# Altium footprint library AltiumDesigner.PcbLib: 3 footprints
Each footprint in its own frame and in the unit in brackets; x right, y up, seen from the top. Pads: shape width x height; smd on the part's side, far side on the other; paste and mask are expansions set on the pad; w line width, h text height; cw(c..) or ccw(c..) is an arc to the next point about the centre after c.
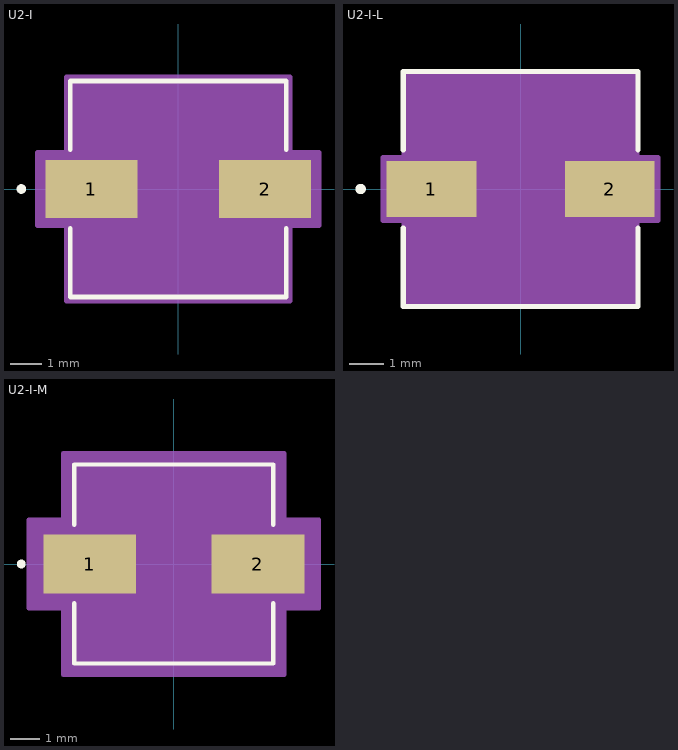
[diagram p0: the footprints below, top view; thin cyan lines are the x and y axes]

## U2-I [mil]
pads (2):
  rect 115x72 smd paste+0 mask+0: 1(-108.5,0) 2(108.5,0)
Top Overlay:
  circle w6: c-196,0 r3
  lines w6: -135,-49.1 -135,-135 135,-135 135,-49.1 ; -135,49.1 -135,135 135,135 135,49.1
Mechanical 13:
  circle w0: c-110,0 r3
  lines w1: -130,-65 -65,-130 ; -130,65 -65,130 ; -130,-130 130,-130 130,130 -130,130 -130,-130
Mechanical 15:
  region: -140,-46 -176,-46 -176,46 -140,46 -140,140 140,140 140,46 176,46 176,-46 140,-46 140,-140 -140,-140
  lines w6: -176,-46 -176,46 -140,46 -140,140 140,140 140,46 176,46 176,-46 140,-46 140,-140 -140,-140 -140,-46 -176,-46
3D body: height 10, standoff 0, extent 0,0 10,10

## U2-I-L [mil]
pads (2):
  rect 103x64 smd paste+0 mask+0: 1(-102.5,0) 2(102.5,0)
Top Overlay:
  circle w6: c-184,0 r3
  lines w6: -135,-45.1 -135,-135 135,-135 135,-45.1 ; -135,45.1 -135,135 135,135 135,45.1
Mechanical 13:
  circle w0: c-110,0 r3
  lines w1: -130,-65 -65,-130 ; -130,65 -65,130 ; -130,-130 130,-130 130,130 -130,130 -130,-130
Mechanical 15:
  region: -134,-36 -158,-36 -158,36 -134,36 -134,134 134,134 134,36 158,36 158,-36 134,-36 134,-134 -134,-134
  lines w6: -158,-36 -158,36 -134,36 -134,134 134,134 134,36 158,36 158,-36 134,-36 134,-134 -134,-134 -134,-36 -158,-36
3D body: height 10, standoff 0, extent 0,0 10,10

## U2-I-M [mil]
pads (2):
  rect 126x80 smd paste+0 mask+0: 1(-114,0) 2(114,0)
Top Overlay:
  circle w6: c-207,0 r3
  lines w6: -135,-53.1 -135,-135 135,-135 135,-53.1 ; -135,53.1 -135,135 135,135 135,53.1
Mechanical 13:
  circle w0: c-110,0 r3
  lines w1: -130,-65 -65,-130 ; -130,65 -65,130 ; -130,-130 130,-130 130,130 -130,130 -130,-130
Mechanical 15:
  region: -150,-60 -197,-60 -197,60 -150,60 -150,150 150,150 150,60 197,60 197,-60 150,-60 150,-150 -150,-150
  lines w6: -197,-60 -197,60 -150,60 -150,150 150,150 150,60 197,60 197,-60 150,-60 150,-150 -150,-150 -150,-60 -197,-60
3D body: height 10, standoff 0, extent 0,0 10,10